# EAGLE library part LM2594 (library custom)
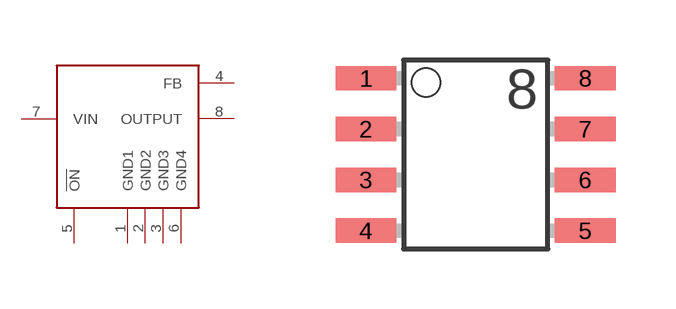
[diagram p5: symbol with the pads of SO-8; footprint SO-8]

Designator prefix -

## LM2594M-3.3, LM2594M-5.0, LM2594M-12, LM2594M-ADJ  [SO-8]
1  GND1  pwr
2  GND2  pwr
3  GND3  pwr
4  FB  in
5  !ON  in
6  GND4  pwr
7  VIN  pwr
8  OUTPUT  sup

## Footprint SO-8 (pad centres in mm)
SO 8 small outline
smd 1.524 x 0.61: 1 -2.743,1.905; 2 -2.743,0.635; 3 -2.743,-0.635; 4 -2.743,-1.905; 5 2.743,-1.905; 6 2.743,-0.635; 7 2.743,0.635; 8 2.743,1.905